# Altium integrated library MergenElektronik_Sensors_AltimeterSensors.IntLib: 1 symbol
Pins are listed as number, name and electrical type; pins without a type are passive.

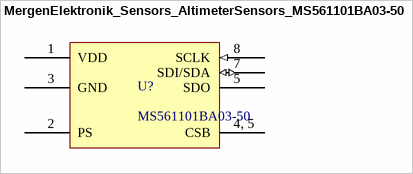
[diagram p0: symbol MergenElektronik_Sensors_AltimeterSensors_MS561101BA03-50]

## MergenElektronik_Sensors_AltimeterSensors_MS561101BA03-50
designator U?, comment MS561101BA03-50
Mergen Elektronik - Sensors - Altimeter Sensors - MS561101BA03-50; Manufacturer: TE Connectivity Measurement Specialties; Operating Supply Voltage: 1.8V up to 3.6V; Output Type: I2C, SPI; Operating Pressure: 0.15PSI up to 17.4PSI (1kPa up to 120kPa); Tolerance: ±0.022PSI (±0.15kPa); Manufacturer Number: MS561101BA03-50; Value: MS561101BA03-50; Model: Altimeter Sensor; Temperature: -40°C up to 85°C; Mounting Type: Surface Mount; Package: MS561101BA03-50; Digi-Key Number: 223-1622-2-NDv; Mouser Number: 824-MS561101BA03-50; Farnell Number: 2362662; Özdisan Number: MS561101BA03-50; Supplier 1: Digi-Key; Supplier Part Number 1: 223-1622-2-NDv; Supplier 2: Mouser; Supplier Part Number 2: 824-MS561101BA03-50
footprint MergenElektronik_Sensors_AltimeterSensors_MS561101BA03-50 (MS561101BA03-50)
pins: 1 VDD, 2 PS, 3 GND, 4, 5 CSB, 5 SDO, 7 SDI/SDA (io), 8 SCLK (in)